# EAGLE library part 634108185421 (library 615008185221_Eagle_WR-MJ_rev20b)
WR-MJ Modular Jack Horizontal Shielded SMT 8P8C Tab Down KIND PROPERTIES Quality Class:750 Mating cycles General Information Operating Temperature:-40 up to +85 °C Compliance:Lead free / RoHS Electrical Properties Working Voltage:125 V (AC) Withstanding Voltage:1000V (AC) Contact Resistance:35 mΩ RISO:1000 MΩ Material Properties Insulator MateriaL:PA9T Insulator Flammability Rating:UL94 V-0 Color:Black Contact Material Copper Alloy Contact Plating:Selective Gold Contact Type:Stamped Shielding Material:Brass Shielding Plating:Nickel Packaging Properties Packaging:Tape and Reel Qty.:150 <https://www.we-online.com/catalog/media/o106789v209%20Family_WR-MJ_634108185421.jpg> Details see: https://www.we-online.com/catalog/en/MJ_HORIZONTAL_SHIELDED_SMT_8P8C_TAB_DOWN/ Updated by Yingchun,Shan 2019-11-26 2019 (C) Würth Elektronik
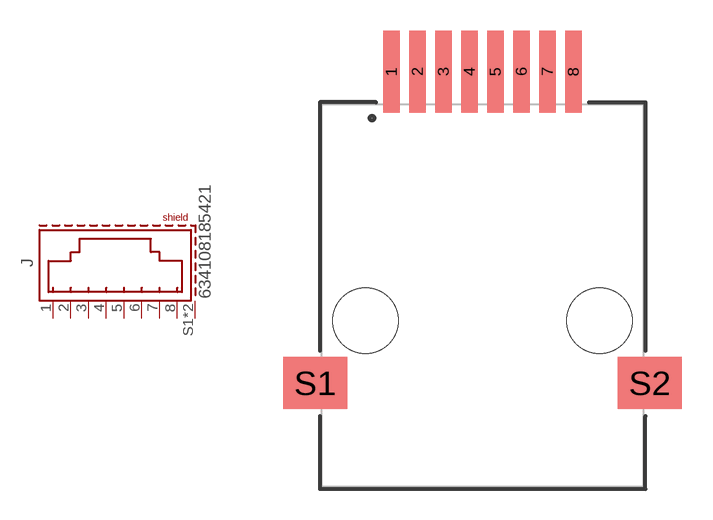
[diagram p65: symbol with the pads of 634108185421; footprint 634108185421]

Designator prefix J

## 634108185421 (DATASHEET-URL: https://www.we-online.com/catalog/datasheet/634108185421.pdf; MOUNT: SMT; PART-NUMBER: 634108185421; TYPE: Horizontal; VALUE: 634108185421; XPXC: 8P8C)  [634108185421]
1  8  pas
2  7  pas
3  6  pas
4  5  pas
5  4  pas
6  3  pas
7  2  pas
8  1  pas
S1  SHIELD  pas
S2  SHIELD  pas

## Footprint 634108185421 (pad centres in mm)
WR-MJ Modular Jack Horizontal Shielded SMT 8P8C Tab Down
smd 0.8 x 4: 1 -4.445,10.95; 2 -3.175,10.95; 3 -1.905,10.95; 4 -0.635,10.95; 5 0.635,10.95; 6 1.905,10.95; 7 3.175,10.95; 8 4.445,10.95
smd 3.12 x 2.54: S1 -8.175,-4.27; S2 8.175,-4.27
hole 3.2 at -5.715,-1.22
hole 3.2 at 5.715,-1.22